# Altium integrated library Newport Power Mgt DC-DC Converter.IntLib: 312 symbols (part 3 of 5)
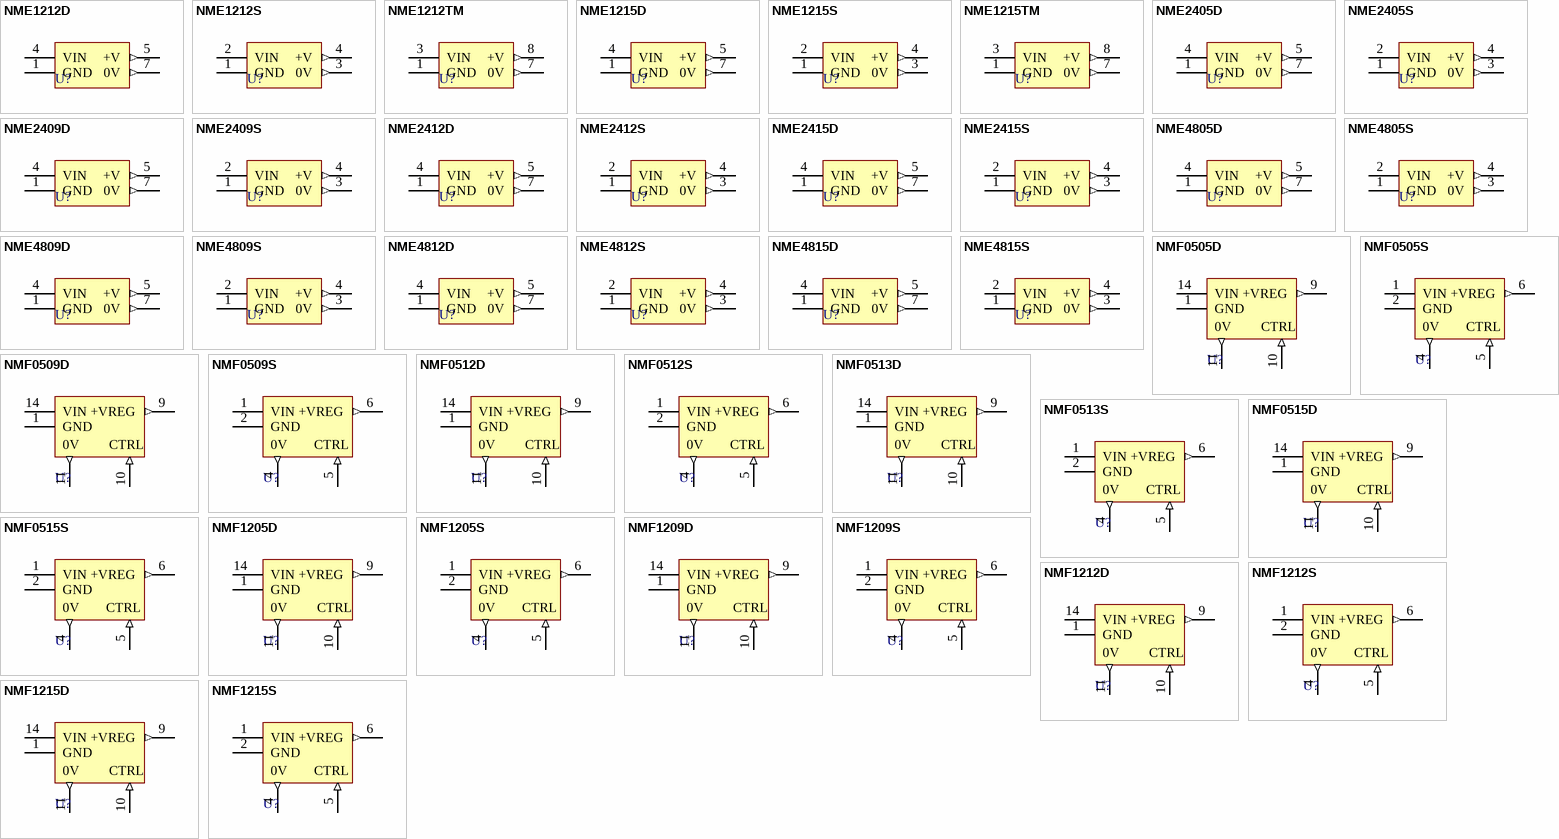
[diagram p9: symbols NME1212D to NMF1215S]

## NME1215TM
designator U?
Isolated 1W Single Output Surface Mount; Note: Pin 14 is No Internal Connection (NC) pin and is not drawn.  Pins 2, 4, 5, 6 and 9-13 are not present.; Published: 8-Jun-2000; LatestRevisionDate: 13-Apr-2006; LatestRevisionNote: IPC-7351 Footprint Added.; DatasheetVersion: Jul-1996; PackageVersion: 1996; PackageReference: NPSOIC14; Publisher: Altium Limited; PackageDescription: 14-Pin (9 Absent) Small Outline Package 1.27 mm Pitch; ComponentLink1Description: Manufacturer Link; ComponentLink1URL: http://www.dc-dc.com/; ComponentLink2Description: Datasheet; ComponentLink2URL: http://www.cd4power.com/data/power/ncl/ndc_nme_3.pdf
footprint NPSOIC14_N (SOP, 14-Leads (9 Absent), Body 12.7x7.7mm, Pitch 1.27mm, IPC Medium Density)
footprint NPSOIC14_L (SOP, 14-Leads (9 Absent), Body 12.7x7.7mm, Pitch 1.27mm, IPC High Density)
footprint NPSOIC14_M (SOP, 14-Leads (9 Absent), Body 12.7x7.7mm, Pitch 1.27mm, IPC Low Density)
pins: 1 GND (power), 3 VIN (power), 7 0V (out), 8 +V (out)

## NME2405D
designator U?
Isolated 1W Single Output; Note: Pins 2, 3, 6 and 8 are not present.; Published: 8-Jun-2000; LatestRevisionDate: 17-Jul-2002; LatestRevisionNote: Re-released for DXP Platform.; DatasheetVersion: Jul-1996; PackageVersion: 1996; PackageReference: NPDIP8; Publisher: Altium Limited; PackageDescription: DIP; 8 Rectangular pins (4 Absent); Row Space 7.62 mm; Pitch 2.54 mm; ComponentLink1Description: Manufacturer Link; ComponentLink1URL: http://www.dc-dc.com/; ComponentLink2Description: Datasheet; ComponentLink2URL: http://www.cd4power.com/data/power/ncl/ndc_nme2_3.pdf
footprint NPDIP8 (DIP; 8 Rectangular pins (4 Absent); Row Space 7.62 mm; Pitch 2.54 mm)
pins: 1 GND (power), 4 VIN (power), 5 +V (out), 7 0V (out)

## NME2405S
designator U?
Isolated 1W Single Output; Published: 8-Jun-2000; LatestRevisionDate: 17-Jul-2002; LatestRevisionNote: Re-released for DXP Platform.; DatasheetVersion: Jul-1996; PackageVersion: 1996; PackageReference: NPSIP4; Publisher: Altium Limited; PackageDescription: SIP; 4 Leads; Body 10 x 11.5 x 6 mm (typ); Pitch 2.54 mm; ComponentLink1Description: Manufacturer Link; ComponentLink1URL: http://www.dc-dc.com/; ComponentLink2Description: Datasheet; ComponentLink2URL: http://www.cd4power.com/data/power/ncl/ndc_nme2_3.pdf
footprint NPSIP4 (SIP; 4 Leads; Body 10 x 11.5 x 6 mm (typ); Pitch 2.54 mm)
pins: 1 GND (power), 2 VIN (power), 3 0V (out), 4 +V (out)

## NME2409D
designator U?
Isolated 1W Single Output; Note: Pins 2, 3, 6 and 8 are not present.; Published: 8-Jun-2000; LatestRevisionDate: 17-Jul-2002; LatestRevisionNote: Re-released for DXP Platform.; DatasheetVersion: Jul-1996; PackageVersion: 1996; PackageReference: NPDIP8; Publisher: Altium Limited; PackageDescription: DIP; 8 Rectangular pins (4 Absent); Row Space 7.62 mm; Pitch 2.54 mm; ComponentLink1Description: Manufacturer Link; ComponentLink1URL: http://www.dc-dc.com/; ComponentLink2Description: Datasheet; ComponentLink2URL: http://www.cd4power.com/data/power/ncl/ndc_nme2_3.pdf
footprint NPDIP8 (DIP; 8 Rectangular pins (4 Absent); Row Space 7.62 mm; Pitch 2.54 mm)
pins: 1 GND (power), 4 VIN (power), 5 +V (out), 7 0V (out)

## NME2409S
designator U?
Isolated 1W Single Output; Published: 8-Jun-2000; LatestRevisionDate: 17-Jul-2002; LatestRevisionNote: Re-released for DXP Platform.; DatasheetVersion: Jul-1996; PackageVersion: 1996; PackageReference: NPSIP4; Publisher: Altium Limited; PackageDescription: SIP; 4 Leads; Body 10 x 11.5 x 6 mm (typ); Pitch 2.54 mm; ComponentLink1Description: Manufacturer Link; ComponentLink1URL: http://www.dc-dc.com/; ComponentLink2Description: Datasheet; ComponentLink2URL: http://www.cd4power.com/data/power/ncl/ndc_nme2_3.pdf
footprint NPSIP4 (SIP; 4 Leads; Body 10 x 11.5 x 6 mm (typ); Pitch 2.54 mm)
pins: 1 GND (power), 2 VIN (power), 3 0V (out), 4 +V (out)

## NME2412D
designator U?
Isolated 1W Single Output; Note: Pins 2, 3, 6 and 8 are not present.; Published: 8-Jun-2000; LatestRevisionDate: 17-Jul-2002; LatestRevisionNote: Re-released for DXP Platform.; DatasheetVersion: Jul-1996; PackageVersion: 1996; PackageReference: NPDIP8; Publisher: Altium Limited; PackageDescription: DIP; 8 Rectangular pins (4 Absent); Row Space 7.62 mm; Pitch 2.54 mm; ComponentLink1Description: Manufacturer Link; ComponentLink1URL: http://www.dc-dc.com/; ComponentLink2Description: Datasheet; ComponentLink2URL: http://www.cd4power.com/data/power/ncl/ndc_nme2_3.pdf
footprint NPDIP8 (DIP; 8 Rectangular pins (4 Absent); Row Space 7.62 mm; Pitch 2.54 mm)
pins: 1 GND (power), 4 VIN (power), 5 +V (out), 7 0V (out)

## NME2412S
designator U?
Isolated 1W Single Output; Published: 8-Jun-2000; LatestRevisionDate: 17-Jul-2002; LatestRevisionNote: Re-released for DXP Platform.; DatasheetVersion: Jul-1996; PackageVersion: 1996; PackageReference: NPSIP4; Publisher: Altium Limited; PackageDescription: SIP; 4 Leads; Body 10 x 11.5 x 6 mm (typ); Pitch 2.54 mm; ComponentLink1Description: Manufacturer Link; ComponentLink1URL: http://www.dc-dc.com/; ComponentLink2Description: Datasheet; ComponentLink2URL: http://www.cd4power.com/data/power/ncl/ndc_nme2_3.pdf
footprint NPSIP4 (SIP; 4 Leads; Body 10 x 11.5 x 6 mm (typ); Pitch 2.54 mm)
pins: 1 GND (power), 2 VIN (power), 3 0V (out), 4 +V (out)

## NME2415D
designator U?
Isolated 1W Single Output; Note: Pins 2, 3, 6 and 8 are not present.; Published: 8-Jun-2000; LatestRevisionDate: 17-Jul-2002; LatestRevisionNote: Re-released for DXP Platform.; DatasheetVersion: Jul-1996; PackageVersion: 1996; PackageReference: NPDIP8; Publisher: Altium Limited; PackageDescription: DIP; 8 Rectangular pins (4 Absent); Row Space 7.62 mm; Pitch 2.54 mm; ComponentLink1Description: Manufacturer Link; ComponentLink1URL: http://www.dc-dc.com/; ComponentLink2Description: Datasheet; ComponentLink2URL: http://www.cd4power.com/data/power/ncl/ndc_nme2_3.pdf
footprint NPDIP8 (DIP; 8 Rectangular pins (4 Absent); Row Space 7.62 mm; Pitch 2.54 mm)
pins: 1 GND (power), 4 VIN (power), 5 +V (out), 7 0V (out)

## NME2415S
designator U?
Isolated 1W Single Output; Published: 8-Jun-2000; LatestRevisionDate: 17-Jul-2002; LatestRevisionNote: Re-released for DXP Platform.; DatasheetVersion: Jul-1996; PackageVersion: 1996; PackageReference: NPSIP4; Publisher: Altium Limited; PackageDescription: SIP; 4 Leads; Body 10 x 11.5 x 6 mm (typ); Pitch 2.54 mm; ComponentLink1Description: Manufacturer Link; ComponentLink1URL: http://www.dc-dc.com/; ComponentLink2Description: Datasheet; ComponentLink2URL: http://www.cd4power.com/data/power/ncl/ndc_nme2_3.pdf
footprint NPSIP4 (SIP; 4 Leads; Body 10 x 11.5 x 6 mm (typ); Pitch 2.54 mm)
pins: 1 GND (power), 2 VIN (power), 3 0V (out), 4 +V (out)

## NME4805D
designator U?
Isolated 1W Single Output; Note: Pins 2, 3, 6 and 8 are not present.; Published: 8-Jun-2000; LatestRevisionDate: 17-Jul-2002; LatestRevisionNote: Re-released for DXP Platform.; DatasheetVersion: Jul-1996; PackageVersion: 1996; PackageReference: NPDIP8A; Publisher: Altium Limited; PackageDescription: DIP; 8 Rectangular pins (4 Absent); Row Space 7.62 mm; Pitch 2.54 mm; ComponentLink1Description: Manufacturer Link; ComponentLink1URL: http://www.dc-dc.com/; ComponentLink2Description: Datasheet; ComponentLink2URL: http://www.cd4power.com/data/power/ncl/ndc_nme2_3.pdf
footprint NPDIP8A (DIP; 8 Rectangular pins (4 Absent); Row Space 7.62 mm; Pitch 2.54 mm)
pins: 1 GND (power), 4 VIN (power), 5 +V (out), 7 0V (out)

## NME4805S
designator U?
Isolated 1W Single Output; Published: 8-Jun-2000; LatestRevisionDate: 17-Jul-2002; LatestRevisionNote: Re-released for DXP Platform.; DatasheetVersion: Jul-1996; PackageVersion: 1996; PackageReference: NPSIP4A; Publisher: Altium Limited; PackageDescription: SIP; 4 Leads; Body 10 x 11.5 x 7.5 mm (typ); Pitch 2.54 mm; ComponentLink1Description: Manufacturer Link; ComponentLink1URL: http://www.dc-dc.com/; ComponentLink2Description: Datasheet; ComponentLink2URL: http://www.cd4power.com/data/power/ncl/ndc_nme2_3.pdf
footprint NPSIP4A (SIP; 4 Leads; Body 10 x 11.5 x 7.5 mm (typ); Pitch 2.54 mm)
pins: 1 GND (power), 2 VIN (power), 3 0V (out), 4 +V (out)

## NME4809D
designator U?
Isolated 1W Single Output; Note: Pins 2, 3, 6 and 8 are not present.; Published: 8-Jun-2000; LatestRevisionDate: 17-Jul-2002; LatestRevisionNote: Re-released for DXP Platform.; DatasheetVersion: Jul-1996; PackageVersion: 1996; PackageReference: NPDIP8A; Publisher: Altium Limited; PackageDescription: DIP; 8 Rectangular pins (4 Absent); Row Space 7.62 mm; Pitch 2.54 mm; ComponentLink1Description: Manufacturer Link; ComponentLink1URL: http://www.dc-dc.com/; ComponentLink2Description: Datasheet; ComponentLink2URL: http://www.cd4power.com/data/power/ncl/ndc_nme2_3.pdf
footprint NPDIP8A (DIP; 8 Rectangular pins (4 Absent); Row Space 7.62 mm; Pitch 2.54 mm)
pins: 1 GND (power), 4 VIN (power), 5 +V (out), 7 0V (out)

## NME4809S
designator U?
Isolated 1W Single Output; Published: 8-Jun-2000; LatestRevisionDate: 17-Jul-2002; LatestRevisionNote: Re-released for DXP Platform.; DatasheetVersion: Jul-1996; PackageVersion: 1996; PackageReference: NPSIP4A; Publisher: Altium Limited; PackageDescription: SIP; 4 Leads; Body 10 x 11.5 x 7.5 mm (typ); Pitch 2.54 mm; ComponentLink1Description: Manufacturer Link; ComponentLink1URL: http://www.dc-dc.com/; ComponentLink2Description: Datasheet; ComponentLink2URL: http://www.cd4power.com/data/power/ncl/ndc_nme2_3.pdf
footprint NPSIP4A (SIP; 4 Leads; Body 10 x 11.5 x 7.5 mm (typ); Pitch 2.54 mm)
pins: 1 GND (power), 2 VIN (power), 3 0V (out), 4 +V (out)

## NME4812D
designator U?
Isolated 1W Single Output; Note: Pins 2, 3, 6 and 8 are not present.; Published: 8-Jun-2000; LatestRevisionDate: 17-Jul-2002; LatestRevisionNote: Re-released for DXP Platform.; DatasheetVersion: Jul-1996; PackageVersion: 1996; PackageReference: NPDIP8A; Publisher: Altium Limited; PackageDescription: DIP; 8 Rectangular pins (4 Absent); Row Space 7.62 mm; Pitch 2.54 mm; ComponentLink1Description: Manufacturer Link; ComponentLink1URL: http://www.dc-dc.com/; ComponentLink2Description: Datasheet; ComponentLink2URL: http://www.cd4power.com/data/power/ncl/ndc_nme2_3.pdf
footprint NPDIP8A (DIP; 8 Rectangular pins (4 Absent); Row Space 7.62 mm; Pitch 2.54 mm)
pins: 1 GND (power), 4 VIN (power), 5 +V (out), 7 0V (out)

## NME4812S
designator U?
Isolated 1W Single Output; Published: 8-Jun-2000; LatestRevisionDate: 17-Jul-2002; LatestRevisionNote: Re-released for DXP Platform.; DatasheetVersion: Jul-1996; PackageVersion: 1996; PackageReference: NPSIP4A; Publisher: Altium Limited; PackageDescription: SIP; 4 Leads; Body 10 x 11.5 x 7.5 mm (typ); Pitch 2.54 mm; ComponentLink1Description: Manufacturer Link; ComponentLink1URL: http://www.dc-dc.com/; ComponentLink2Description: Datasheet; ComponentLink2URL: http://www.cd4power.com/data/power/ncl/ndc_nme2_3.pdf
footprint NPSIP4A (SIP; 4 Leads; Body 10 x 11.5 x 7.5 mm (typ); Pitch 2.54 mm)
pins: 1 GND (power), 2 VIN (power), 3 0V (out), 4 +V (out)

## NME4815D
designator U?
Isolated 1W Single Output; Note: Pins 2, 3, 6 and 8 are not present.; Published: 8-Jun-2000; LatestRevisionDate: 17-Jul-2002; LatestRevisionNote: Re-released for DXP Platform.; DatasheetVersion: Jul-1996; PackageVersion: 1996; PackageReference: NPDIP8A; Publisher: Altium Limited; PackageDescription: DIP; 8 Rectangular pins (4 Absent); Row Space 7.62 mm; Pitch 2.54 mm; ComponentLink1Description: Manufacturer Link; ComponentLink1URL: http://www.dc-dc.com/; ComponentLink2Description: Datasheet; ComponentLink2URL: http://www.cd4power.com/data/power/ncl/ndc_nme2_3.pdf
footprint NPDIP8A (DIP; 8 Rectangular pins (4 Absent); Row Space 7.62 mm; Pitch 2.54 mm)
pins: 1 GND (power), 4 VIN (power), 5 +V (out), 7 0V (out)

## NME4815S
designator U?
Isolated 1W Single Output; Published: 8-Jun-2000; LatestRevisionDate: 17-Jul-2002; LatestRevisionNote: Re-released for DXP Platform.; DatasheetVersion: Jul-1996; PackageVersion: 1996; PackageReference: NPSIP4A; Publisher: Altium Limited; PackageDescription: SIP; 4 Leads; Body 10 x 11.5 x 7.5 mm (typ); Pitch 2.54 mm; ComponentLink1Description: Manufacturer Link; ComponentLink1URL: http://www.dc-dc.com/; ComponentLink2Description: Datasheet; ComponentLink2URL: http://www.cd4power.com/data/power/ncl/ndc_nme2_3.pdf
footprint NPSIP4A (SIP; 4 Leads; Body 10 x 11.5 x 7.5 mm (typ); Pitch 2.54 mm)
pins: 1 GND (power), 2 VIN (power), 3 0V (out), 4 +V (out)

## NMF0505D
designator U?
Isolated 1W Regulated Single Output; Note: Pins 2-8, 12 and 13 are not present.; Published: 8-Jun-2000; LatestRevisionDate: 17-Jul-2002; LatestRevisionNote: Re-released for DXP Platform.; DatasheetVersion: Jul-1996; PackageVersion: 1996; PackageReference: NPDIP14C; Publisher: Altium Limited; PackageDescription: DIP; 14 Rectangular pins (9 Absent); Row Space 7.62 mm; Pitch 2.54 mm; ComponentLink1Description: Manufacturer Link; ComponentLink1URL: http://www.dc-dc.com/; ComponentLink2Description: Datasheet; ComponentLink2URL: http://www.cd4power.com/data/power/ncl/ndc_nmf_3.pdf
footprint NPDIP14C (DIP; 14 Rectangular pins (9 Absent); Row Space 7.62 mm; Pitch 2.54 mm)
pins: 1 GND (power), 9 +VREG (out), 10 CTRL (in), 11 0V (out), 14 VIN (power)

## NMF0505S
designator U?
Isolated 1W Regulated Single Output; Note: Pins 3 and 7 are not present.; Published: 8-Jun-2000; LatestRevisionDate: 17-Jul-2002; LatestRevisionNote: Re-released for DXP Platform.; DatasheetVersion: Jul-1996; PackageVersion: 1996; PackageReference: NPSIP7; Publisher: Altium Limited; PackageDescription: SIP; 7 Leads (2 Absent); Body 19.5 x 6 mm (LxW typ); Pitch 2.54 mm; ComponentLink1Description: Manufacturer Link; ComponentLink1URL: http://www.dc-dc.com/; ComponentLink2Description: Datasheet; ComponentLink2URL: http://www.cd4power.com/data/power/ncl/ndc_nmf_3.pdf
footprint NPSIP7 (SIP; 7 Leads (2 Absent); Body 19.5 x 6 mm (LxW typ); Pitch 2.54 mm)
pins: 1 VIN (power), 2 GND (power), 4 0V (out), 5 CTRL (in), 6 +VREG (out)

## NMF0509D
designator U?
Isolated 1W Regulated Single Output; Note: Pins 2-8, 12 and 13 are not present.; Published: 8-Jun-2000; LatestRevisionDate: 17-Jul-2002; LatestRevisionNote: Re-released for DXP Platform.; DatasheetVersion: Jul-1996; PackageVersion: 1996; PackageReference: NPDIP14C; Publisher: Altium Limited; PackageDescription: DIP; 14 Rectangular pins (9 Absent); Row Space 7.62 mm; Pitch 2.54 mm; ComponentLink1Description: Manufacturer Link; ComponentLink1URL: http://www.dc-dc.com/; ComponentLink2Description: Datasheet; ComponentLink2URL: http://www.cd4power.com/data/power/ncl/ndc_nmf_3.pdf
footprint NPDIP14C (DIP; 14 Rectangular pins (9 Absent); Row Space 7.62 mm; Pitch 2.54 mm)
pins: 1 GND (power), 9 +VREG (out), 10 CTRL (in), 11 0V (out), 14 VIN (power)

## NMF0509S
designator U?
Isolated 1W Regulated Single Output; Note: Pins 3 and 7 are not present.; Published: 8-Jun-2000; LatestRevisionDate: 17-Jul-2002; LatestRevisionNote: Re-released for DXP Platform.; DatasheetVersion: Jul-1996; PackageVersion: 1996; PackageReference: NPSIP7; Publisher: Altium Limited; PackageDescription: SIP; 7 Leads (2 Absent); Body 19.5 x 6 mm (LxW typ); Pitch 2.54 mm; ComponentLink1Description: Manufacturer Link; ComponentLink1URL: http://www.dc-dc.com/; ComponentLink2Description: Datasheet; ComponentLink2URL: http://www.cd4power.com/data/power/ncl/ndc_nmf_3.pdf
footprint NPSIP7 (SIP; 7 Leads (2 Absent); Body 19.5 x 6 mm (LxW typ); Pitch 2.54 mm)
pins: 1 VIN (power), 2 GND (power), 4 0V (out), 5 CTRL (in), 6 +VREG (out)

## NMF0512D
designator U?
Isolated 1W Regulated Single Output; Note: Pins 2-8, 12 and 13 are not present.; Published: 8-Jun-2000; LatestRevisionDate: 17-Jul-2002; LatestRevisionNote: Re-released for DXP Platform.; DatasheetVersion: Jul-1996; PackageVersion: 1996; PackageReference: NPDIP14C; Publisher: Altium Limited; PackageDescription: DIP; 14 Rectangular pins (9 Absent); Row Space 7.62 mm; Pitch 2.54 mm; ComponentLink1Description: Manufacturer Link; ComponentLink1URL: http://www.dc-dc.com/; ComponentLink2Description: Datasheet; ComponentLink2URL: http://www.cd4power.com/data/power/ncl/ndc_nmf_3.pdf
footprint NPDIP14C (DIP; 14 Rectangular pins (9 Absent); Row Space 7.62 mm; Pitch 2.54 mm)
pins: 1 GND (power), 9 +VREG (out), 10 CTRL (in), 11 0V (out), 14 VIN (power)

## NMF0512S
designator U?
Isolated 1W Regulated Single Output; Note: Pins 3 and 7 are not present.; Published: 8-Jun-2000; LatestRevisionDate: 17-Jul-2002; LatestRevisionNote: Re-released for DXP Platform.; DatasheetVersion: Jul-1996; PackageVersion: 1996; PackageReference: NPSIP7; Publisher: Altium Limited; PackageDescription: SIP; 7 Leads (2 Absent); Body 19.5 x 6 mm (LxW typ); Pitch 2.54 mm; ComponentLink1Description: Manufacturer Link; ComponentLink1URL: http://www.dc-dc.com/; ComponentLink2Description: Datasheet; ComponentLink2URL: http://www.cd4power.com/data/power/ncl/ndc_nmf_3.pdf
footprint NPSIP7 (SIP; 7 Leads (2 Absent); Body 19.5 x 6 mm (LxW typ); Pitch 2.54 mm)
pins: 1 VIN (power), 2 GND (power), 4 0V (out), 5 CTRL (in), 6 +VREG (out)

## NMF0513D
designator U?
Isolated 1W Regulated Single Output; Note: Pins 2-8, 12 and 13 are not present.; Published: 8-Jun-2000; LatestRevisionDate: 17-Jul-2002; LatestRevisionNote: Re-released for DXP Platform.; DatasheetVersion: Jul-1996; PackageVersion: 1996; PackageReference: NPDIP14C; Publisher: Altium Limited; PackageDescription: DIP; 14 Rectangular pins (9 Absent); Row Space 7.62 mm; Pitch 2.54 mm; ComponentLink1Description: Manufacturer Link; ComponentLink1URL: http://www.dc-dc.com/; ComponentLink2Description: Datasheet; ComponentLink2URL: http://www.cd4power.com/data/power/ncl/ndc_nmf_3.pdf
footprint NPDIP14C (DIP; 14 Rectangular pins (9 Absent); Row Space 7.62 mm; Pitch 2.54 mm)
pins: 1 GND (power), 9 +VREG (out), 10 CTRL (in), 11 0V (out), 14 VIN (power)

## NMF0513S
designator U?
Isolated 1W Regulated Single Output; Note: Pins 3 and 7 are not present.; Published: 8-Jun-2000; LatestRevisionDate: 17-Jul-2002; LatestRevisionNote: Re-released for DXP Platform.; DatasheetVersion: Jul-1996; PackageVersion: 1996; PackageReference: NPSIP7; Publisher: Altium Limited; PackageDescription: SIP; 7 Leads (2 Absent); Body 19.5 x 6 mm (LxW typ); Pitch 2.54 mm; ComponentLink1Description: Manufacturer Link; ComponentLink1URL: http://www.dc-dc.com/; ComponentLink2Description: Datasheet; ComponentLink2URL: http://www.cd4power.com/data/power/ncl/ndc_nmf_3.pdf
footprint NPSIP7 (SIP; 7 Leads (2 Absent); Body 19.5 x 6 mm (LxW typ); Pitch 2.54 mm)
pins: 1 VIN (power), 2 GND (power), 4 0V (out), 5 CTRL (in), 6 +VREG (out)

## NMF0515D
designator U?
Isolated 1W Regulated Single Output; Note: Pins 2-8, 12 and 13 are not present.; Published: 8-Jun-2000; LatestRevisionDate: 17-Jul-2002; LatestRevisionNote: Re-released for DXP Platform.; DatasheetVersion: Jul-1996; PackageVersion: 1996; PackageReference: NPDIP14C; Publisher: Altium Limited; PackageDescription: DIP; 14 Rectangular pins (9 Absent); Row Space 7.62 mm; Pitch 2.54 mm; ComponentLink1Description: Manufacturer Link; ComponentLink1URL: http://www.dc-dc.com/; ComponentLink2Description: Datasheet; ComponentLink2URL: http://www.cd4power.com/data/power/ncl/ndc_nmf_3.pdf
footprint NPDIP14C (DIP; 14 Rectangular pins (9 Absent); Row Space 7.62 mm; Pitch 2.54 mm)
pins: 1 GND (power), 9 +VREG (out), 10 CTRL (in), 11 0V (out), 14 VIN (power)

## NMF0515S
designator U?
Isolated 1W Regulated Single Output; Note: Pins 3 and 7 are not present.; Published: 8-Jun-2000; LatestRevisionDate: 17-Jul-2002; LatestRevisionNote: Re-released for DXP Platform.; DatasheetVersion: Jul-1996; PackageVersion: 1996; PackageReference: NPSIP7; Publisher: Altium Limited; PackageDescription: SIP; 7 Leads (2 Absent); Body 19.5 x 6 mm (LxW typ); Pitch 2.54 mm; ComponentLink1Description: Manufacturer Link; ComponentLink1URL: http://www.dc-dc.com/; ComponentLink2Description: Datasheet; ComponentLink2URL: http://www.cd4power.com/data/power/ncl/ndc_nmf_3.pdf
footprint NPSIP7 (SIP; 7 Leads (2 Absent); Body 19.5 x 6 mm (LxW typ); Pitch 2.54 mm)
pins: 1 VIN (power), 2 GND (power), 4 0V (out), 5 CTRL (in), 6 +VREG (out)

## NMF1205D
designator U?
Isolated 1W Regulated Single Output; Note: Pins 2-8, 12 and 13 are not present.; Published: 8-Jun-2000; LatestRevisionDate: 17-Jul-2002; LatestRevisionNote: Re-released for DXP Platform.; DatasheetVersion: Jul-1996; PackageVersion: 1996; PackageReference: NPDIP14C; Publisher: Altium Limited; PackageDescription: DIP; 14 Rectangular pins (9 Absent); Row Space 7.62 mm; Pitch 2.54 mm; ComponentLink1Description: Manufacturer Link; ComponentLink1URL: http://www.dc-dc.com/; ComponentLink2Description: Datasheet; ComponentLink2URL: http://www.cd4power.com/data/power/ncl/ndc_nmf_3.pdf
footprint NPDIP14C (DIP; 14 Rectangular pins (9 Absent); Row Space 7.62 mm; Pitch 2.54 mm)
pins: 1 GND (power), 9 +VREG (out), 10 CTRL (in), 11 0V (out), 14 VIN (power)

## NMF1205S
designator U?
Isolated 1W Regulated Single Output; Note: Pins 3 and 7 are not present.; Published: 8-Jun-2000; LatestRevisionDate: 17-Jul-2002; LatestRevisionNote: Re-released for DXP Platform.; DatasheetVersion: Jul-1996; PackageVersion: 1996; PackageReference: NPSIP7; Publisher: Altium Limited; PackageDescription: SIP; 7 Leads (2 Absent); Body 19.5 x 6 mm (LxW typ); Pitch 2.54 mm; ComponentLink1Description: Manufacturer Link; ComponentLink1URL: http://www.dc-dc.com/; ComponentLink2Description: Datasheet; ComponentLink2URL: http://www.cd4power.com/data/power/ncl/ndc_nmf_3.pdf
footprint NPSIP7 (SIP; 7 Leads (2 Absent); Body 19.5 x 6 mm (LxW typ); Pitch 2.54 mm)
pins: 1 VIN (power), 2 GND (power), 4 0V (out), 5 CTRL (in), 6 +VREG (out)

## NMF1209D
designator U?
Isolated 1W Regulated Single Output; Note: Pins 2-8, 12 and 13 are not present.; Published: 8-Jun-2000; LatestRevisionDate: 17-Jul-2002; LatestRevisionNote: Re-released for DXP Platform.; DatasheetVersion: Jul-1996; PackageVersion: 1996; PackageReference: NPDIP14C; Publisher: Altium Limited; PackageDescription: DIP; 14 Rectangular pins (9 Absent); Row Space 7.62 mm; Pitch 2.54 mm; ComponentLink1Description: Manufacturer Link; ComponentLink1URL: http://www.dc-dc.com/; ComponentLink2Description: Datasheet; ComponentLink2URL: http://www.cd4power.com/data/power/ncl/ndc_nmf_3.pdf
footprint NPDIP14C (DIP; 14 Rectangular pins (9 Absent); Row Space 7.62 mm; Pitch 2.54 mm)
pins: 1 GND (power), 9 +VREG (out), 10 CTRL (in), 11 0V (out), 14 VIN (power)

## NMF1209S
designator U?
Isolated 1W Regulated Single Output; Note: Pins 3 and 7 are not present.; Published: 8-Jun-2000; LatestRevisionDate: 17-Jul-2002; LatestRevisionNote: Re-released for DXP Platform.; DatasheetVersion: Jul-1996; PackageVersion: 1996; PackageReference: NPSIP7; Publisher: Altium Limited; PackageDescription: SIP; 7 Leads (2 Absent); Body 19.5 x 6 mm (LxW typ); Pitch 2.54 mm; ComponentLink1Description: Manufacturer Link; ComponentLink1URL: http://www.dc-dc.com/; ComponentLink2Description: Datasheet; ComponentLink2URL: http://www.cd4power.com/data/power/ncl/ndc_nmf_3.pdf
footprint NPSIP7 (SIP; 7 Leads (2 Absent); Body 19.5 x 6 mm (LxW typ); Pitch 2.54 mm)
pins: 1 VIN (power), 2 GND (power), 4 0V (out), 5 CTRL (in), 6 +VREG (out)

## NMF1212D
designator U?
Isolated 1W Regulated Single Output; Note: Pins 2-8, 12 and 13 are not present.; Published: 8-Jun-2000; LatestRevisionDate: 17-Jul-2002; LatestRevisionNote: Re-released for DXP Platform.; DatasheetVersion: Jul-1996; PackageVersion: 1996; PackageReference: NPDIP14C; Publisher: Altium Limited; PackageDescription: DIP; 14 Rectangular pins (9 Absent); Row Space 7.62 mm; Pitch 2.54 mm; ComponentLink1Description: Manufacturer Link; ComponentLink1URL: http://www.dc-dc.com/; ComponentLink2Description: Datasheet; ComponentLink2URL: http://www.cd4power.com/data/power/ncl/ndc_nmf_3.pdf
footprint NPDIP14C (DIP; 14 Rectangular pins (9 Absent); Row Space 7.62 mm; Pitch 2.54 mm)
pins: 1 GND (power), 9 +VREG (out), 10 CTRL (in), 11 0V (out), 14 VIN (power)

## NMF1212S
designator U?
Isolated 1W Regulated Single Output; Note: Pins 3 and 7 are not present.; Published: 8-Jun-2000; LatestRevisionDate: 17-Jul-2002; LatestRevisionNote: Re-released for DXP Platform.; DatasheetVersion: Jul-1996; PackageVersion: 1996; PackageReference: NPSIP7; Publisher: Altium Limited; PackageDescription: SIP; 7 Leads (2 Absent); Body 19.5 x 6 mm (LxW typ); Pitch 2.54 mm; ComponentLink1Description: Manufacturer Link; ComponentLink1URL: http://www.dc-dc.com/; ComponentLink2Description: Datasheet; ComponentLink2URL: http://www.cd4power.com/data/power/ncl/ndc_nmf_3.pdf
footprint NPSIP7 (SIP; 7 Leads (2 Absent); Body 19.5 x 6 mm (LxW typ); Pitch 2.54 mm)
pins: 1 VIN (power), 2 GND (power), 4 0V (out), 5 CTRL (in), 6 +VREG (out)

## NMF1215D
designator U?
Isolated 1W Regulated Single Output; Note: Pins 2-8, 12 and 13 are not present.; Published: 8-Jun-2000; LatestRevisionDate: 17-Jul-2002; LatestRevisionNote: Re-released for DXP Platform.; DatasheetVersion: Jul-1996; PackageVersion: 1996; PackageReference: NPDIP14C; Publisher: Altium Limited; PackageDescription: DIP; 14 Rectangular pins (9 Absent); Row Space 7.62 mm; Pitch 2.54 mm; ComponentLink1Description: Manufacturer Link; ComponentLink1URL: http://www.dc-dc.com/; ComponentLink2Description: Datasheet; ComponentLink2URL: http://www.cd4power.com/data/power/ncl/ndc_nmf_3.pdf
footprint NPDIP14C (DIP; 14 Rectangular pins (9 Absent); Row Space 7.62 mm; Pitch 2.54 mm)
pins: 1 GND (power), 9 +VREG (out), 10 CTRL (in), 11 0V (out), 14 VIN (power)

## NMF1215S
designator U?
Isolated 1W Regulated Single Output; Note: Pins 3 and 7 are not present.; Published: 8-Jun-2000; LatestRevisionDate: 17-Jul-2002; LatestRevisionNote: Re-released for DXP Platform.; DatasheetVersion: Jul-1996; PackageVersion: 1996; PackageReference: NPSIP7; Publisher: Altium Limited; PackageDescription: SIP; 7 Leads (2 Absent); Body 19.5 x 6 mm (LxW typ); Pitch 2.54 mm; ComponentLink1Description: Manufacturer Link; ComponentLink1URL: http://www.dc-dc.com/; ComponentLink2Description: Datasheet; ComponentLink2URL: http://www.cd4power.com/data/power/ncl/ndc_nmf_3.pdf
footprint NPSIP7 (SIP; 7 Leads (2 Absent); Body 19.5 x 6 mm (LxW typ); Pitch 2.54 mm)
pins: 1 VIN (power), 2 GND (power), 4 0V (out), 5 CTRL (in), 6 +VREG (out)

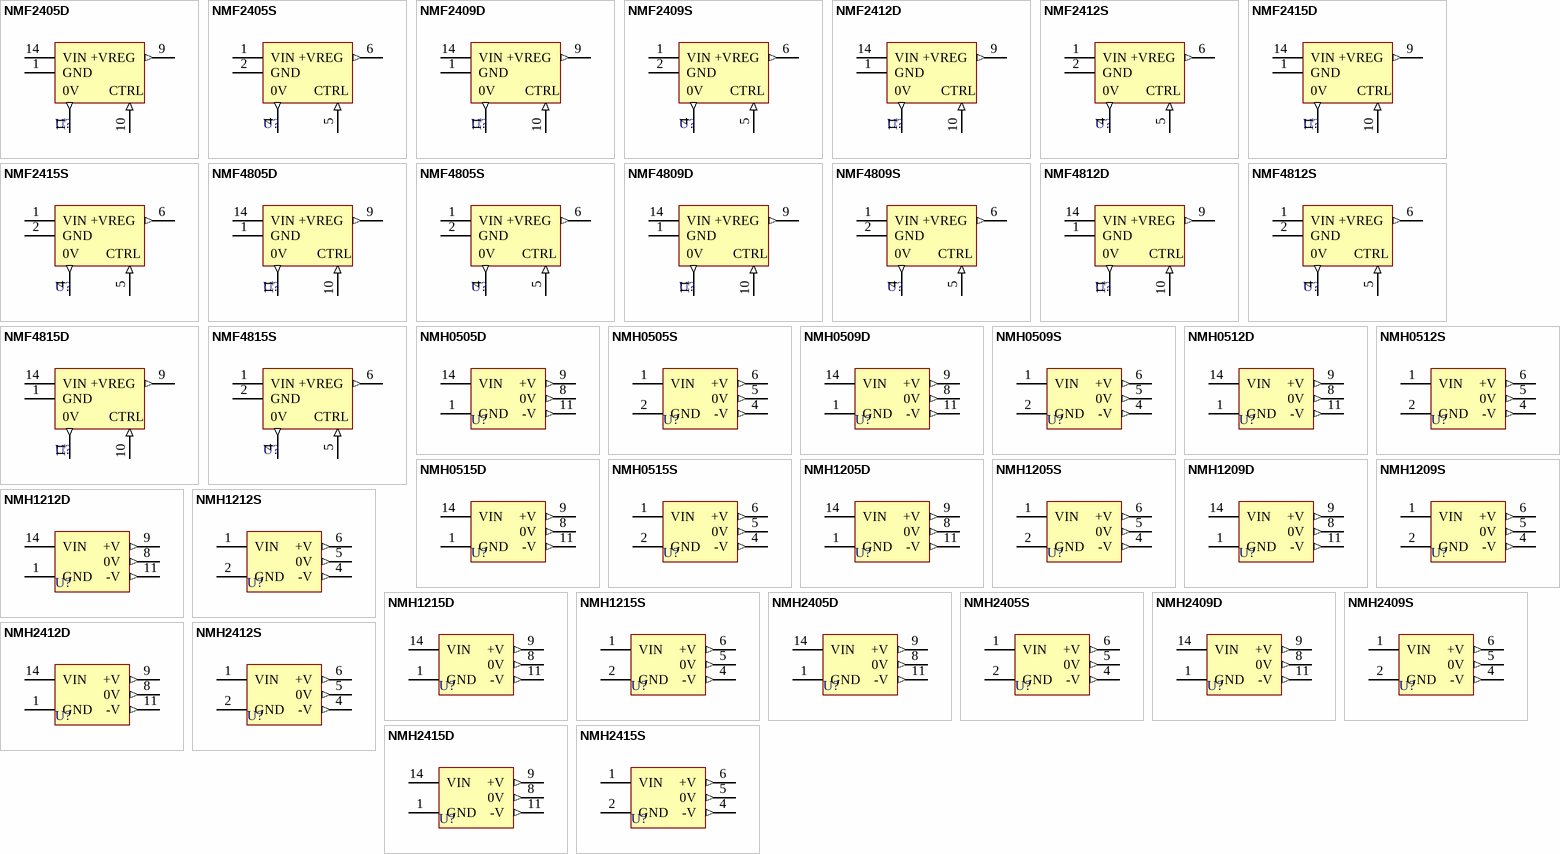
[diagram p4: symbols NMF2405D to NMH2415S]

## NMF2405D
designator U?
Isolated 1W Regulated Single Output; Note: Pins 2-8, 12 and 13 are not present.; Published: 8-Jun-2000; LatestRevisionDate: 17-Jul-2002; LatestRevisionNote: Re-released for DXP Platform.; DatasheetVersion: Jul-1996; PackageVersion: 1996; PackageReference: NPDIP14CA; Publisher: Altium Limited; PackageDescription: DIP; 14 Rectangular pins (9 Absent); Row Space 7.62 mm; Pitch 2.54 mm; ComponentLink1Description: Manufacturer Link; ComponentLink1URL: http://www.dc-dc.com/; ComponentLink2Description: Datasheet; ComponentLink2URL: http://www.cd4power.com/data/power/ncl/ndc_nmf_3.pdf
footprint NPDIP14CA (DIP; 14 Rectangular pins (9 Absent); Row Space 7.62 mm; Pitch 2.54 mm)
pins: 1 GND (power), 9 +VREG (out), 10 CTRL (in), 11 0V (out), 14 VIN (power)

## NMF2405S
designator U?
Isolated 1W Regulated Single Output; Note: Pins 3 and 7 are not present.; Published: 8-Jun-2000; LatestRevisionDate: 17-Jul-2002; LatestRevisionNote: Re-released for DXP Platform.; DatasheetVersion: Jul-1996; PackageVersion: 1996; PackageReference: NPSIP7A; Publisher: Altium Limited; PackageDescription: SIP; 7 Leads (2 Absent); Body 19.5 x 7.6 mm (LxW typ); Pitch 2.54 mm; ComponentLink1Description: Manufacturer Link; ComponentLink1URL: http://www.dc-dc.com/; ComponentLink2Description: Datasheet; ComponentLink2URL: http://www.cd4power.com/data/power/ncl/ndc_nmf_3.pdf
footprint NPSIP7A (SIP; 7 Leads (2 Absent); Body 19.5 x 7.6 mm (LxW typ); Pitch 2.54 mm)
pins: 1 VIN (power), 2 GND (power), 4 0V (out), 5 CTRL (in), 6 +VREG (out)

## NMF2409D
designator U?
Isolated 1W Regulated Single Output; Note: Pins 2-8, 12 and 13 are not present.; Published: 8-Jun-2000; LatestRevisionDate: 17-Jul-2002; LatestRevisionNote: Re-released for DXP Platform.; DatasheetVersion: Jul-1996; PackageVersion: 1996; PackageReference: NPDIP14CA; Publisher: Altium Limited; PackageDescription: DIP; 14 Rectangular pins (9 Absent); Row Space 7.62 mm; Pitch 2.54 mm; ComponentLink1Description: Manufacturer Link; ComponentLink1URL: http://www.dc-dc.com/; ComponentLink2Description: Datasheet; ComponentLink2URL: http://www.cd4power.com/data/power/ncl/ndc_nmf_3.pdf
footprint NPDIP14CA (DIP; 14 Rectangular pins (9 Absent); Row Space 7.62 mm; Pitch 2.54 mm)
pins: 1 GND (power), 9 +VREG (out), 10 CTRL (in), 11 0V (out), 14 VIN (power)

## NMF2409S
designator U?
Isolated 1W Regulated Single Output; Note: Pins 3 and 7 are not present.; Published: 8-Jun-2000; LatestRevisionDate: 17-Jul-2002; LatestRevisionNote: Re-released for DXP Platform.; DatasheetVersion: Jul-1996; PackageVersion: 1996; PackageReference: NPSIP7A; Publisher: Altium Limited; PackageDescription: SIP; 7 Leads (2 Absent); Body 19.5 x 7.6 mm (LxW typ); Pitch 2.54 mm; ComponentLink1Description: Manufacturer Link; ComponentLink1URL: http://www.dc-dc.com/; ComponentLink2Description: Datasheet; ComponentLink2URL: http://www.cd4power.com/data/power/ncl/ndc_nmf_3.pdf
footprint NPSIP7A (SIP; 7 Leads (2 Absent); Body 19.5 x 7.6 mm (LxW typ); Pitch 2.54 mm)
pins: 1 VIN (power), 2 GND (power), 4 0V (out), 5 CTRL (in), 6 +VREG (out)

## NMF2412D
designator U?
Isolated 1W Regulated Single Output; Note: Pins 2-8, 12 and 13 are not present.; Published: 8-Jun-2000; LatestRevisionDate: 17-Jul-2002; LatestRevisionNote: Re-released for DXP Platform.; DatasheetVersion: Jul-1996; PackageVersion: 1996; PackageReference: NPDIP14CA; Publisher: Altium Limited; PackageDescription: DIP; 14 Rectangular pins (9 Absent); Row Space 7.62 mm; Pitch 2.54 mm; ComponentLink1Description: Manufacturer Link; ComponentLink1URL: http://www.dc-dc.com/; ComponentLink2Description: Datasheet; ComponentLink2URL: http://www.cd4power.com/data/power/ncl/ndc_nmf_3.pdf
footprint NPDIP14CA (DIP; 14 Rectangular pins (9 Absent); Row Space 7.62 mm; Pitch 2.54 mm)
pins: 1 GND (power), 9 +VREG (out), 10 CTRL (in), 11 0V (out), 14 VIN (power)

## NMF2412S
designator U?
Isolated 1W Regulated Single Output; Note: Pins 3 and 7 are not present.; Published: 8-Jun-2000; LatestRevisionDate: 17-Jul-2002; LatestRevisionNote: Re-released for DXP Platform.; DatasheetVersion: Jul-1996; PackageVersion: 1996; PackageReference: NPSIP7A; Publisher: Altium Limited; PackageDescription: SIP; 7 Leads (2 Absent); Body 19.5 x 7.6 mm (LxW typ); Pitch 2.54 mm; ComponentLink1Description: Manufacturer Link; ComponentLink1URL: http://www.dc-dc.com/; ComponentLink2Description: Datasheet; ComponentLink2URL: http://www.cd4power.com/data/power/ncl/ndc_nmf_3.pdf
footprint NPSIP7A (SIP; 7 Leads (2 Absent); Body 19.5 x 7.6 mm (LxW typ); Pitch 2.54 mm)
pins: 1 VIN (power), 2 GND (power), 4 0V (out), 5 CTRL (in), 6 +VREG (out)

## NMF2415D
designator U?
Isolated 1W Regulated Single Output; Note: Pins 2-8, 12 and 13 are not present.; Published: 8-Jun-2000; LatestRevisionDate: 17-Jul-2002; LatestRevisionNote: Re-released for DXP Platform.; DatasheetVersion: Jul-1996; PackageVersion: 1996; PackageReference: NPDIP14CA; Publisher: Altium Limited; PackageDescription: DIP; 14 Rectangular pins (9 Absent); Row Space 7.62 mm; Pitch 2.54 mm; ComponentLink1Description: Manufacturer Link; ComponentLink1URL: http://www.dc-dc.com/; ComponentLink2Description: Datasheet; ComponentLink2URL: http://www.cd4power.com/data/power/ncl/ndc_nmf_3.pdf
footprint NPDIP14CA (DIP; 14 Rectangular pins (9 Absent); Row Space 7.62 mm; Pitch 2.54 mm)
pins: 1 GND (power), 9 +VREG (out), 10 CTRL (in), 11 0V (out), 14 VIN (power)

## NMF2415S
designator U?
Isolated 1W Regulated Single Output; Note: Pins 3 and 7 are not present.; Published: 8-Jun-2000; LatestRevisionDate: 17-Jul-2002; LatestRevisionNote: Re-released for DXP Platform.; DatasheetVersion: Jul-1996; PackageVersion: 1996; PackageReference: NPSIP7A; Publisher: Altium Limited; PackageDescription: SIP; 7 Leads (2 Absent); Body 19.5 x 7.6 mm (LxW typ); Pitch 2.54 mm; ComponentLink1Description: Manufacturer Link; ComponentLink1URL: http://www.dc-dc.com/; ComponentLink2Description: Datasheet; ComponentLink2URL: http://www.cd4power.com/data/power/ncl/ndc_nmf_3.pdf
footprint NPSIP7A (SIP; 7 Leads (2 Absent); Body 19.5 x 7.6 mm (LxW typ); Pitch 2.54 mm)
pins: 1 VIN (power), 2 GND (power), 4 0V (out), 5 CTRL (in), 6 +VREG (out)

## NMF4805D
designator U?
Isolated 1W Regulated Single Output; Note: Pins 2-8, 12 and 13 are not present.; Published: 8-Jun-2000; LatestRevisionDate: 17-Jul-2002; LatestRevisionNote: Re-released for DXP Platform.; DatasheetVersion: Jul-1996; PackageVersion: 1996; PackageReference: NPDIP14CA; Publisher: Altium Limited; PackageDescription: DIP; 14 Rectangular pins (9 Absent); Row Space 7.62 mm; Pitch 2.54 mm; ComponentLink1Description: Manufacturer Link; ComponentLink1URL: http://www.dc-dc.com/; ComponentLink2Description: Datasheet; ComponentLink2URL: http://www.cd4power.com/data/power/ncl/ndc_nmf_3.pdf
footprint NPDIP14CA (DIP; 14 Rectangular pins (9 Absent); Row Space 7.62 mm; Pitch 2.54 mm)
pins: 1 GND (power), 9 +VREG (out), 10 CTRL (in), 11 0V (out), 14 VIN (power)

## NMF4805S
designator U?
Isolated 1W Regulated Single Output; Note: Pins 3 and 7 are not present.; Published: 8-Jun-2000; LatestRevisionDate: 17-Jul-2002; LatestRevisionNote: Re-released for DXP Platform.; DatasheetVersion: Jul-1996; PackageVersion: 1996; PackageReference: NPSIP7A; Publisher: Altium Limited; PackageDescription: SIP; 7 Leads (2 Absent); Body 19.5 x 7.6 mm (LxW typ); Pitch 2.54 mm; ComponentLink1Description: Manufacturer Link; ComponentLink1URL: http://www.dc-dc.com/; ComponentLink2Description: Datasheet; ComponentLink2URL: http://www.cd4power.com/data/power/ncl/ndc_nmf_3.pdf
footprint NPSIP7A (SIP; 7 Leads (2 Absent); Body 19.5 x 7.6 mm (LxW typ); Pitch 2.54 mm)
pins: 1 VIN (power), 2 GND (power), 4 0V (out), 5 CTRL (in), 6 +VREG (out)

## NMF4809D
designator U?
Isolated 1W Regulated Single Output; Note: Pins 2-8, 12 and 13 are not present.; Published: 8-Jun-2000; LatestRevisionDate: 17-Jul-2002; LatestRevisionNote: Re-released for DXP Platform.; DatasheetVersion: Jul-1996; PackageVersion: 1996; PackageReference: NPDIP14CA; Publisher: Altium Limited; PackageDescription: DIP; 14 Rectangular pins (9 Absent); Row Space 7.62 mm; Pitch 2.54 mm; ComponentLink1Description: Manufacturer Link; ComponentLink1URL: http://www.dc-dc.com/; ComponentLink2Description: Datasheet; ComponentLink2URL: http://www.cd4power.com/data/power/ncl/ndc_nmf_3.pdf
footprint NPDIP14CA (DIP; 14 Rectangular pins (9 Absent); Row Space 7.62 mm; Pitch 2.54 mm)
pins: 1 GND (power), 9 +VREG (out), 10 CTRL (in), 11 0V (out), 14 VIN (power)

## NMF4809S
designator U?
Isolated 1W Regulated Single Output; Note: Pins 3 and 7 are not present.; Published: 8-Jun-2000; LatestRevisionDate: 17-Jul-2002; LatestRevisionNote: Re-released for DXP Platform.; DatasheetVersion: Jul-1996; PackageVersion: 1996; PackageReference: NPSIP7A; Publisher: Altium Limited; PackageDescription: SIP; 7 Leads (2 Absent); Body 19.5 x 7.6 mm (LxW typ); Pitch 2.54 mm; ComponentLink1Description: Manufacturer Link; ComponentLink1URL: http://www.dc-dc.com/; ComponentLink2Description: Datasheet; ComponentLink2URL: http://www.cd4power.com/data/power/ncl/ndc_nmf_3.pdf
footprint NPSIP7A (SIP; 7 Leads (2 Absent); Body 19.5 x 7.6 mm (LxW typ); Pitch 2.54 mm)
pins: 1 VIN (power), 2 GND (power), 4 0V (out), 5 CTRL (in), 6 +VREG (out)

## NMF4812D
designator U?
Isolated 1W Regulated Single Output; Note: Pins 2-8, 12 and 13 are not present.; Published: 8-Jun-2000; LatestRevisionDate: 17-Jul-2002; LatestRevisionNote: Re-released for DXP Platform.; DatasheetVersion: Jul-1996; PackageVersion: 1996; PackageReference: NPDIP14CA; Publisher: Altium Limited; PackageDescription: DIP; 14 Rectangular pins (9 Absent); Row Space 7.62 mm; Pitch 2.54 mm; ComponentLink1Description: Manufacturer Link; ComponentLink1URL: http://www.dc-dc.com/; ComponentLink2Description: Datasheet; ComponentLink2URL: http://www.cd4power.com/data/power/ncl/ndc_nmf_3.pdf
footprint NPDIP14CA (DIP; 14 Rectangular pins (9 Absent); Row Space 7.62 mm; Pitch 2.54 mm)
pins: 1 GND (power), 9 +VREG (out), 10 CTRL (in), 11 0V (out), 14 VIN (power)

## NMF4812S
designator U?
Isolated 1W Regulated Single Output; Note: Pins 3 and 7 are not present.; Published: 8-Jun-2000; LatestRevisionDate: 17-Jul-2002; LatestRevisionNote: Re-released for DXP Platform.; DatasheetVersion: Jul-1996; PackageVersion: 1996; PackageReference: NPSIP7A; Publisher: Altium Limited; PackageDescription: SIP; 7 Leads (2 Absent); Body 19.5 x 7.6 mm (LxW typ); Pitch 2.54 mm; ComponentLink1Description: Manufacturer Link; ComponentLink1URL: http://www.dc-dc.com/; ComponentLink2Description: Datasheet; ComponentLink2URL: http://www.cd4power.com/data/power/ncl/ndc_nmf_3.pdf
footprint NPSIP7A (SIP; 7 Leads (2 Absent); Body 19.5 x 7.6 mm (LxW typ); Pitch 2.54 mm)
pins: 1 VIN (power), 2 GND (power), 4 0V (out), 5 CTRL (in), 6 +VREG (out)

## NMF4815D
designator U?
Isolated 1W Regulated Single Output; Note: Pins 2-8, 12 and 13 are not present.; Published: 8-Jun-2000; LatestRevisionDate: 17-Jul-2002; LatestRevisionNote: Re-released for DXP Platform.; DatasheetVersion: Jul-1996; PackageVersion: 1996; PackageReference: NPDIP14CA; Publisher: Altium Limited; PackageDescription: DIP; 14 Rectangular pins (9 Absent); Row Space 7.62 mm; Pitch 2.54 mm; ComponentLink1Description: Manufacturer Link; ComponentLink1URL: http://www.dc-dc.com/; ComponentLink2Description: Datasheet; ComponentLink2URL: http://www.cd4power.com/data/power/ncl/ndc_nmf_3.pdf
footprint NPDIP14CA (DIP; 14 Rectangular pins (9 Absent); Row Space 7.62 mm; Pitch 2.54 mm)
pins: 1 GND (power), 9 +VREG (out), 10 CTRL (in), 11 0V (out), 14 VIN (power)

## NMF4815S
designator U?
Isolated 1W Regulated Single Output; Note: Pins 3 and 7 are not present.; Published: 8-Jun-2000; LatestRevisionDate: 17-Jul-2002; LatestRevisionNote: Re-released for DXP Platform.; DatasheetVersion: Jul-1996; PackageVersion: 1996; PackageReference: NPSIP7A; Publisher: Altium Limited; PackageDescription: SIP; 7 Leads (2 Absent); Body 19.5 x 7.6 mm (LxW typ); Pitch 2.54 mm; ComponentLink1Description: Manufacturer Link; ComponentLink1URL: http://www.dc-dc.com/; ComponentLink2Description: Datasheet; ComponentLink2URL: http://www.cd4power.com/data/power/ncl/ndc_nmf_3.pdf
footprint NPSIP7A (SIP; 7 Leads (2 Absent); Body 19.5 x 7.6 mm (LxW typ); Pitch 2.54 mm)
pins: 1 VIN (power), 2 GND (power), 4 0V (out), 5 CTRL (in), 6 +VREG (out)

## NMH0505D
designator U?
Isolated 2W Dual Output; Note: Pin 7 is No Internal Connection (NC) pin and is not drawn. Pins 2-6, 10, 12 and 13 are not present.; Published: 8-Jun-2000; LatestRevisionDate: 17-Jul-2002; LatestRevisionNote: PCB footprint, 'DIP-P6(14)/X1.2' replaced; Re-released for DXP Platform.; DatasheetVersion: Jul-1996; PackageVersion: 1996; PackageReference: NPDIP14; Publisher: Altium Limited; PackageDescription: DIP; 14 Rectangular pins (8 Absent); Row Space 7.62 mm; Pitch 2.54 mm; ComponentLink1Description: Manufacturer Link; ComponentLink1URL: http://www.dc-dc.com/; ComponentLink2Description: Datasheet; ComponentLink2URL: http://www.cd4power.com/data/power/ncl/ndc_nmh_3.pdf
footprint NPDIP14 (DIP; 14 Rectangular pins (8 Absent); Row Space 7.62 mm; Pitch 2.54 mm)
pins: 1 GND (power), 8 0V (out), 9 +V (out), 11 -V (out), 14 VIN (power)

## NMH0505S
designator U?
Isolated 2W Dual Output; Note: Pins 3 and 7 are not present.; Published: 8-Jun-2000; LatestRevisionDate: 17-Jul-2002; LatestRevisionNote: Re-released for DXP Platform.; DatasheetVersion: Jul-1996; PackageVersion: 1996; PackageReference: NPSIP7; Publisher: Altium Limited; PackageDescription: SIP; 7 Leads (2 Absent); Body 19.5 x 6 mm (LxW typ); Pitch 2.54 mm; ComponentLink1Description: Manufacturer Link; ComponentLink1URL: http://www.dc-dc.com/; ComponentLink2Description: Datasheet; ComponentLink2URL: http://www.cd4power.com/data/power/ncl/ndc_nmh_3.pdf
footprint NPSIP7 (SIP; 7 Leads (2 Absent); Body 19.5 x 6 mm (LxW typ); Pitch 2.54 mm)
pins: 1 VIN (power), 2 GND (power), 4 -V (out), 5 0V (out), 6 +V (out)

## NMH0509D
designator U?
Isolated 2W Dual Output; Note: Pin 7 is No Internal Connection (NC) pin and is not drawn. Pins 2-6, 10, 12 and 13 are not present.; Published: 8-Jun-2000; LatestRevisionDate: 17-Jul-2002; LatestRevisionNote: PCB footprint, 'DIP-P6(14)/X1.2' replaced; Re-released for DXP Platform.; DatasheetVersion: Jul-1996; PackageVersion: 1996; PackageReference: NPDIP14; Publisher: Altium Limited; PackageDescription: DIP; 14 Rectangular pins (8 Absent); Row Space 7.62 mm; Pitch 2.54 mm; ComponentLink1Description: Manufacturer Link; ComponentLink1URL: http://www.dc-dc.com/; ComponentLink2Description: Datasheet; ComponentLink2URL: http://www.cd4power.com/data/power/ncl/ndc_nmh_3.pdf
footprint NPDIP14 (DIP; 14 Rectangular pins (8 Absent); Row Space 7.62 mm; Pitch 2.54 mm)
pins: 1 GND (power), 8 0V (out), 9 +V (out), 11 -V (out), 14 VIN (power)

## NMH0509S
designator U?
Isolated 2W Dual Output; Note: Pins 3 and 7 are not present.; Published: 8-Jun-2000; LatestRevisionDate: 17-Jul-2002; LatestRevisionNote: Re-released for DXP Platform.; DatasheetVersion: Jul-1996; PackageVersion: 1996; PackageReference: NPSIP7; Publisher: Altium Limited; PackageDescription: SIP; 7 Leads (2 Absent); Body 19.5 x 6 mm (LxW typ); Pitch 2.54 mm; ComponentLink1Description: Manufacturer Link; ComponentLink1URL: http://www.dc-dc.com/; ComponentLink2Description: Datasheet; ComponentLink2URL: http://www.cd4power.com/data/power/ncl/ndc_nmh_3.pdf
footprint NPSIP7 (SIP; 7 Leads (2 Absent); Body 19.5 x 6 mm (LxW typ); Pitch 2.54 mm)
pins: 1 VIN (power), 2 GND (power), 4 -V (out), 5 0V (out), 6 +V (out)

## NMH0512D
designator U?
Isolated 2W Dual Output; Note: Pin 7 is No Internal Connection (NC) pin and is not drawn. Pins 2-6, 10, 12 and 13 are not present.; Published: 8-Jun-2000; LatestRevisionDate: 17-Jul-2002; LatestRevisionNote: PCB footprint, 'DIP-P6(14)/X1.2' replaced; Re-released for DXP Platform.; DatasheetVersion: Jul-1996; PackageVersion: 1996; PackageReference: NPDIP14; Publisher: Altium Limited; PackageDescription: DIP; 14 Rectangular pins (8 Absent); Row Space 7.62 mm; Pitch 2.54 mm; ComponentLink1Description: Manufacturer Link; ComponentLink1URL: http://www.dc-dc.com/; ComponentLink2Description: Datasheet; ComponentLink2URL: http://www.cd4power.com/data/power/ncl/ndc_nmh_3.pdf
footprint NPDIP14 (DIP; 14 Rectangular pins (8 Absent); Row Space 7.62 mm; Pitch 2.54 mm)
pins: 1 GND (power), 8 0V (out), 9 +V (out), 11 -V (out), 14 VIN (power)

## NMH0512S
designator U?
Isolated 2W Dual Output; Note: Pins 3 and 7 are not present.; Published: 8-Jun-2000; LatestRevisionDate: 17-Jul-2002; LatestRevisionNote: Re-released for DXP Platform.; DatasheetVersion: Jul-1996; PackageVersion: 1996; PackageReference: NPSIP7; Publisher: Altium Limited; PackageDescription: SIP; 7 Leads (2 Absent); Body 19.5 x 6 mm (LxW typ); Pitch 2.54 mm; ComponentLink1Description: Manufacturer Link; ComponentLink1URL: http://www.dc-dc.com/; ComponentLink2Description: Datasheet; ComponentLink2URL: http://www.cd4power.com/data/power/ncl/ndc_nmh_3.pdf
footprint NPSIP7 (SIP; 7 Leads (2 Absent); Body 19.5 x 6 mm (LxW typ); Pitch 2.54 mm)
pins: 1 VIN (power), 2 GND (power), 4 -V (out), 5 0V (out), 6 +V (out)

## NMH0515D
designator U?
Isolated 2W Dual Output; Note: Pin 7 is No Internal Connection (NC) pin and is not drawn. Pins 2-6, 10, 12 and 13 are not present.; Published: 8-Jun-2000; LatestRevisionDate: 17-Jul-2002; LatestRevisionNote: PCB footprint, 'DIP-P6(14)/X1.2' replaced; Re-released for DXP Platform.; DatasheetVersion: Jul-1996; PackageVersion: 1996; PackageReference: NPDIP14; Publisher: Altium Limited; PackageDescription: DIP; 14 Rectangular pins (8 Absent); Row Space 7.62 mm; Pitch 2.54 mm; ComponentLink1Description: Manufacturer Link; ComponentLink1URL: http://www.dc-dc.com/; ComponentLink2Description: Datasheet; ComponentLink2URL: http://www.cd4power.com/data/power/ncl/ndc_nmh_3.pdf
footprint NPDIP14 (DIP; 14 Rectangular pins (8 Absent); Row Space 7.62 mm; Pitch 2.54 mm)
pins: 1 GND (power), 8 0V (out), 9 +V (out), 11 -V (out), 14 VIN (power)

## NMH0515S
designator U?
Isolated 2W Dual Output; Note: Pins 3 and 7 are not present.; Published: 8-Jun-2000; LatestRevisionDate: 17-Jul-2002; LatestRevisionNote: Re-released for DXP Platform.; DatasheetVersion: Jul-1996; PackageVersion: 1996; PackageReference: NPSIP7; Publisher: Altium Limited; PackageDescription: SIP; 7 Leads (2 Absent); Body 19.5 x 6 mm (LxW typ); Pitch 2.54 mm; ComponentLink1Description: Manufacturer Link; ComponentLink1URL: http://www.dc-dc.com/; ComponentLink2Description: Datasheet; ComponentLink2URL: http://www.cd4power.com/data/power/ncl/ndc_nmh_3.pdf
footprint NPSIP7 (SIP; 7 Leads (2 Absent); Body 19.5 x 6 mm (LxW typ); Pitch 2.54 mm)
pins: 1 VIN (power), 2 GND (power), 4 -V (out), 5 0V (out), 6 +V (out)

## NMH1205D
designator U?
Isolated 2W Dual Output; Note: Pin 7 is No Internal Connection (NC) pin and is not drawn. Pins 2-6, 10, 12 and 13 are not present.; Published: 8-Jun-2000; LatestRevisionDate: 17-Jul-2002; LatestRevisionNote: PCB footprint, 'DIP-P6(14)/X1.2' replaced; Re-released for DXP Platform.; DatasheetVersion: Jul-1996; PackageVersion: 1996; PackageReference: NPDIP14; Publisher: Altium Limited; PackageDescription: DIP; 14 Rectangular pins (8 Absent); Row Space 7.62 mm; Pitch 2.54 mm; ComponentLink1Description: Manufacturer Link; ComponentLink1URL: http://www.dc-dc.com/; ComponentLink2Description: Datasheet; ComponentLink2URL: http://www.cd4power.com/data/power/ncl/ndc_nmh_3.pdf
footprint NPDIP14 (DIP; 14 Rectangular pins (8 Absent); Row Space 7.62 mm; Pitch 2.54 mm)
pins: 1 GND (power), 8 0V (out), 9 +V (out), 11 -V (out), 14 VIN (power)

## NMH1205S
designator U?
Isolated 2W Dual Output; Note: Pins 3 and 7 are not present.; Published: 8-Jun-2000; LatestRevisionDate: 17-Jul-2002; LatestRevisionNote: Re-released for DXP Platform.; DatasheetVersion: Jul-1996; PackageVersion: 1996; PackageReference: NPSIP7; Publisher: Altium Limited; PackageDescription: SIP; 7 Leads (2 Absent); Body 19.5 x 6 mm (LxW typ); Pitch 2.54 mm; ComponentLink1Description: Manufacturer Link; ComponentLink1URL: http://www.dc-dc.com/; ComponentLink2Description: Datasheet; ComponentLink2URL: http://www.cd4power.com/data/power/ncl/ndc_nmh_3.pdf
footprint NPSIP7 (SIP; 7 Leads (2 Absent); Body 19.5 x 6 mm (LxW typ); Pitch 2.54 mm)
pins: 1 VIN (power), 2 GND (power), 4 -V (out), 5 0V (out), 6 +V (out)

## NMH1209D
designator U?
Isolated 2W Dual Output; Note: Pin 7 is No Internal Connection (NC) pin and is not drawn. Pins 2-6, 10, 12 and 13 are not present.; Published: 8-Jun-2000; LatestRevisionDate: 17-Jul-2002; LatestRevisionNote: PCB footprint, 'DIP-P6(14)/X1.2' replaced; Re-released for DXP Platform.; DatasheetVersion: Jul-1996; PackageVersion: 1996; PackageReference: NPDIP14; Publisher: Altium Limited; PackageDescription: DIP; 14 Rectangular pins (8 Absent); Row Space 7.62 mm; Pitch 2.54 mm; ComponentLink1Description: Manufacturer Link; ComponentLink1URL: http://www.dc-dc.com/; ComponentLink2Description: Datasheet; ComponentLink2URL: http://www.cd4power.com/data/power/ncl/ndc_nmh_3.pdf
footprint NPDIP14 (DIP; 14 Rectangular pins (8 Absent); Row Space 7.62 mm; Pitch 2.54 mm)
pins: 1 GND (power), 8 0V (out), 9 +V (out), 11 -V (out), 14 VIN (power)

## NMH1209S
designator U?
Isolated 2W Dual Output; Note: Pins 3 and 7 are not present.; Published: 8-Jun-2000; LatestRevisionDate: 17-Jul-2002; LatestRevisionNote: Re-released for DXP Platform.; DatasheetVersion: Jul-1996; PackageVersion: 1996; PackageReference: NPSIP7; Publisher: Altium Limited; PackageDescription: SIP; 7 Leads (2 Absent); Body 19.5 x 6 mm (LxW typ); Pitch 2.54 mm; ComponentLink1Description: Manufacturer Link; ComponentLink1URL: http://www.dc-dc.com/; ComponentLink2Description: Datasheet; ComponentLink2URL: http://www.cd4power.com/data/power/ncl/ndc_nmh_3.pdf
footprint NPSIP7 (SIP; 7 Leads (2 Absent); Body 19.5 x 6 mm (LxW typ); Pitch 2.54 mm)
pins: 1 VIN (power), 2 GND (power), 4 -V (out), 5 0V (out), 6 +V (out)

## NMH1212D
designator U?
Isolated 2W Dual Output; Note: Pin 7 is No Internal Connection (NC) pin and is not drawn. Pins 2-6, 10, 12 and 13 are not present.; Published: 8-Jun-2000; LatestRevisionDate: 17-Jul-2002; LatestRevisionNote: PCB footprint, 'DIP-P6(14)/X1.2' replaced; Re-released for DXP Platform.; DatasheetVersion: Jul-1996; PackageVersion: 1996; PackageReference: NPDIP14; Publisher: Altium Limited; PackageDescription: DIP; 14 Rectangular pins (8 Absent); Row Space 7.62 mm; Pitch 2.54 mm; ComponentLink1Description: Manufacturer Link; ComponentLink1URL: http://www.dc-dc.com/; ComponentLink2Description: Datasheet; ComponentLink2URL: http://www.cd4power.com/data/power/ncl/ndc_nmh_3.pdf
footprint NPDIP14 (DIP; 14 Rectangular pins (8 Absent); Row Space 7.62 mm; Pitch 2.54 mm)
pins: 1 GND (power), 8 0V (out), 9 +V (out), 11 -V (out), 14 VIN (power)

## NMH1212S
designator U?
Isolated 2W Dual Output; Note: Pins 3 and 7 are not present.; Published: 8-Jun-2000; LatestRevisionDate: 17-Jul-2002; LatestRevisionNote: Re-released for DXP Platform.; DatasheetVersion: Jul-1996; PackageVersion: 1996; PackageReference: NPSIP7; Publisher: Altium Limited; PackageDescription: SIP; 7 Leads (2 Absent); Body 19.5 x 6 mm (LxW typ); Pitch 2.54 mm; ComponentLink1Description: Manufacturer Link; ComponentLink1URL: http://www.dc-dc.com/; ComponentLink2Description: Datasheet; ComponentLink2URL: http://www.cd4power.com/data/power/ncl/ndc_nmh_3.pdf
footprint NPSIP7 (SIP; 7 Leads (2 Absent); Body 19.5 x 6 mm (LxW typ); Pitch 2.54 mm)
pins: 1 VIN (power), 2 GND (power), 4 -V (out), 5 0V (out), 6 +V (out)